# Altium footprint library 晶振self.PcbLib: 9 footprints
Each footprint in its own frame and in the unit in brackets; x right, y up, seen from the top. Pads: shape width x height; smd on the part's side, far side on the other; paste and mask are expansions set on the pad; w line width, h text height; cw(c..) or ccw(c..) is an arc to the next point about the centre after c.
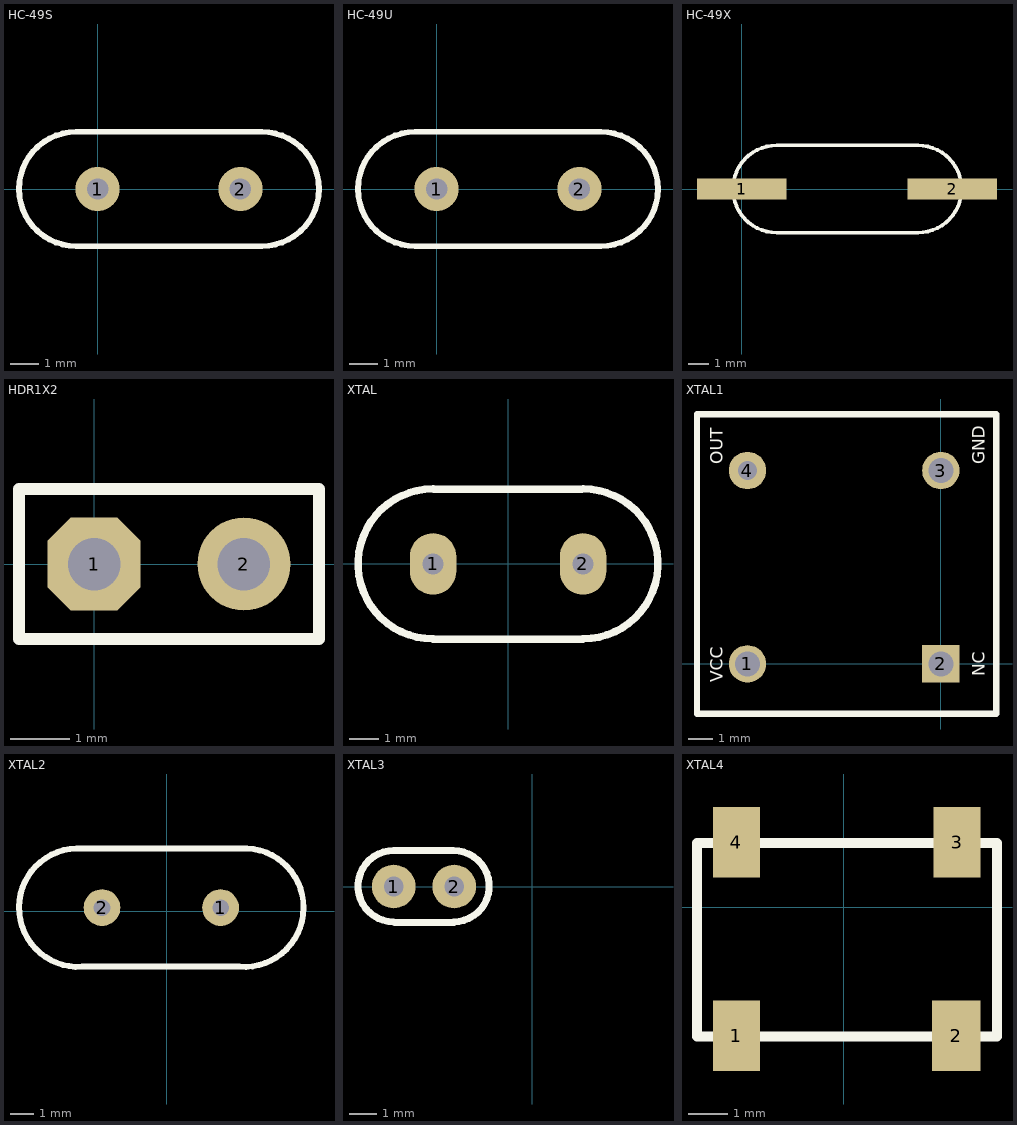
[diagram p0: the footprints below, top view; thin cyan lines are the x and y axes]

## HC-49S [mil]
pads (2):
  round 62 hole 30: 1(0,0) 2(200,0)
Top Overlay:
  lines w8: -30,-80 cw(c-30,0) -30,80 230,80 cw(c230,0) 230,-80 -30,-80

## HC-49U [mil]
pads (2):
  round 62 hole 30: 1(0,0) 2(200,0)
Top Overlay:
  lines w8: -30,-80 cw(c-30,0) -30,80 230,80 cw(c230,0) 230,-80 -30,-80

## HC-49X [mm]
pads (2):
  rect 4.3x1 smd: 1(0,0) 2(10.135,0)
Top Overlay:
  lines w0.178: 1.68,-2.1 cw(c1.68,0) 1.68,2.1 8.48,2.1 cw(c8.48,0) 8.48,-2.1 1.68,-2.1

## HDR1X2 [mil]
pads (2):
  oct 62x62 hole 35: 1(0,0)
  round 62 hole 35: 2(100,0)
Top Overlay:
  lines w8: -50,-50 -50,50 150,50 150,-50 -50,-50

## XTAL [mil]
pads (2):
  oval 62x82 hole 28: 1(-100,0) 2(100,0)
Top Overlay:
  lines w10: -100,-100.39 99.8,-100.39 ; -100,-100 cw(c-100,0) -100,100 ; -99.02,99.41 98.62,99.37 ; 100,-100 ccw(c100,0) 100,100

## XTAL1 [mil]
pads (4):
  round 60 hole 40: 1(-310.08,-0.1) 3(-0.08,309.9)
  rect 60x60 hole 40: 2(0,0)
  round 60 hole 30: 4(-310.08,309.9)
Top Overlay:
  lines w10: -391.02,-80 -391.02,400 88.98,400 88.98,-80 -391.02,-80
  text "NC" at 70,-20 h20
  text "GND" at 70,320 h20
  text "OUT" at -350,320 h20
  text "VCC" at -350,-30 h20

## XTAL2 [mil]
pads (2):
  round 62 hole 28: 1(91,6) 2(-109,6)
Top Overlay:
  lines w10: -141.03,105.68 ccw(c-149,6) -142.56,-93.79 -142.45,-93.68 123.03,-93.68 ; 123.03,-93.68 ccw(c131,6) 124.56,105.79 -140.91,105.79 ; -140.91,105.79 -141.03,105.68 -140.91,105.79

## XTAL3 [mil]
pads (2):
  round 62 hole 28: 1(-196.85,0) 2(-111,0)
Top Overlay:
  lines w10: -111.89,-50.11 ccw(c-111.89,0.49) -111.89,51.1 -197,51.1 ccw(c-197,0.55) -197,-50 -196,-51 -111,-51

## XTAL4 [mil]
pads (4):
  rect 47.24x70 smd: 1(-107,-128) 3(113,65) 4(-107,65)
  rect 48.42x70 smd: 2(112,-128)
Top Overlay:
  lines w10: -146.37,-128.81 -146.37,64.1 152.84,64.1 152.84,-128.81 -146.37,-128.81